# Altium footprint library TI Logic Gate.PcbLib: 60 footprints (part 2 of 4)
Each footprint in its own frame and in the unit in brackets; x right, y up, seen from the top. Pads: shape width x height; smd on the part's side, far side on the other; paste and mask are expansions set on the pad; w line width, h text height; cw(c..) or ccw(c..) is an arc to the next point about the centre after c.
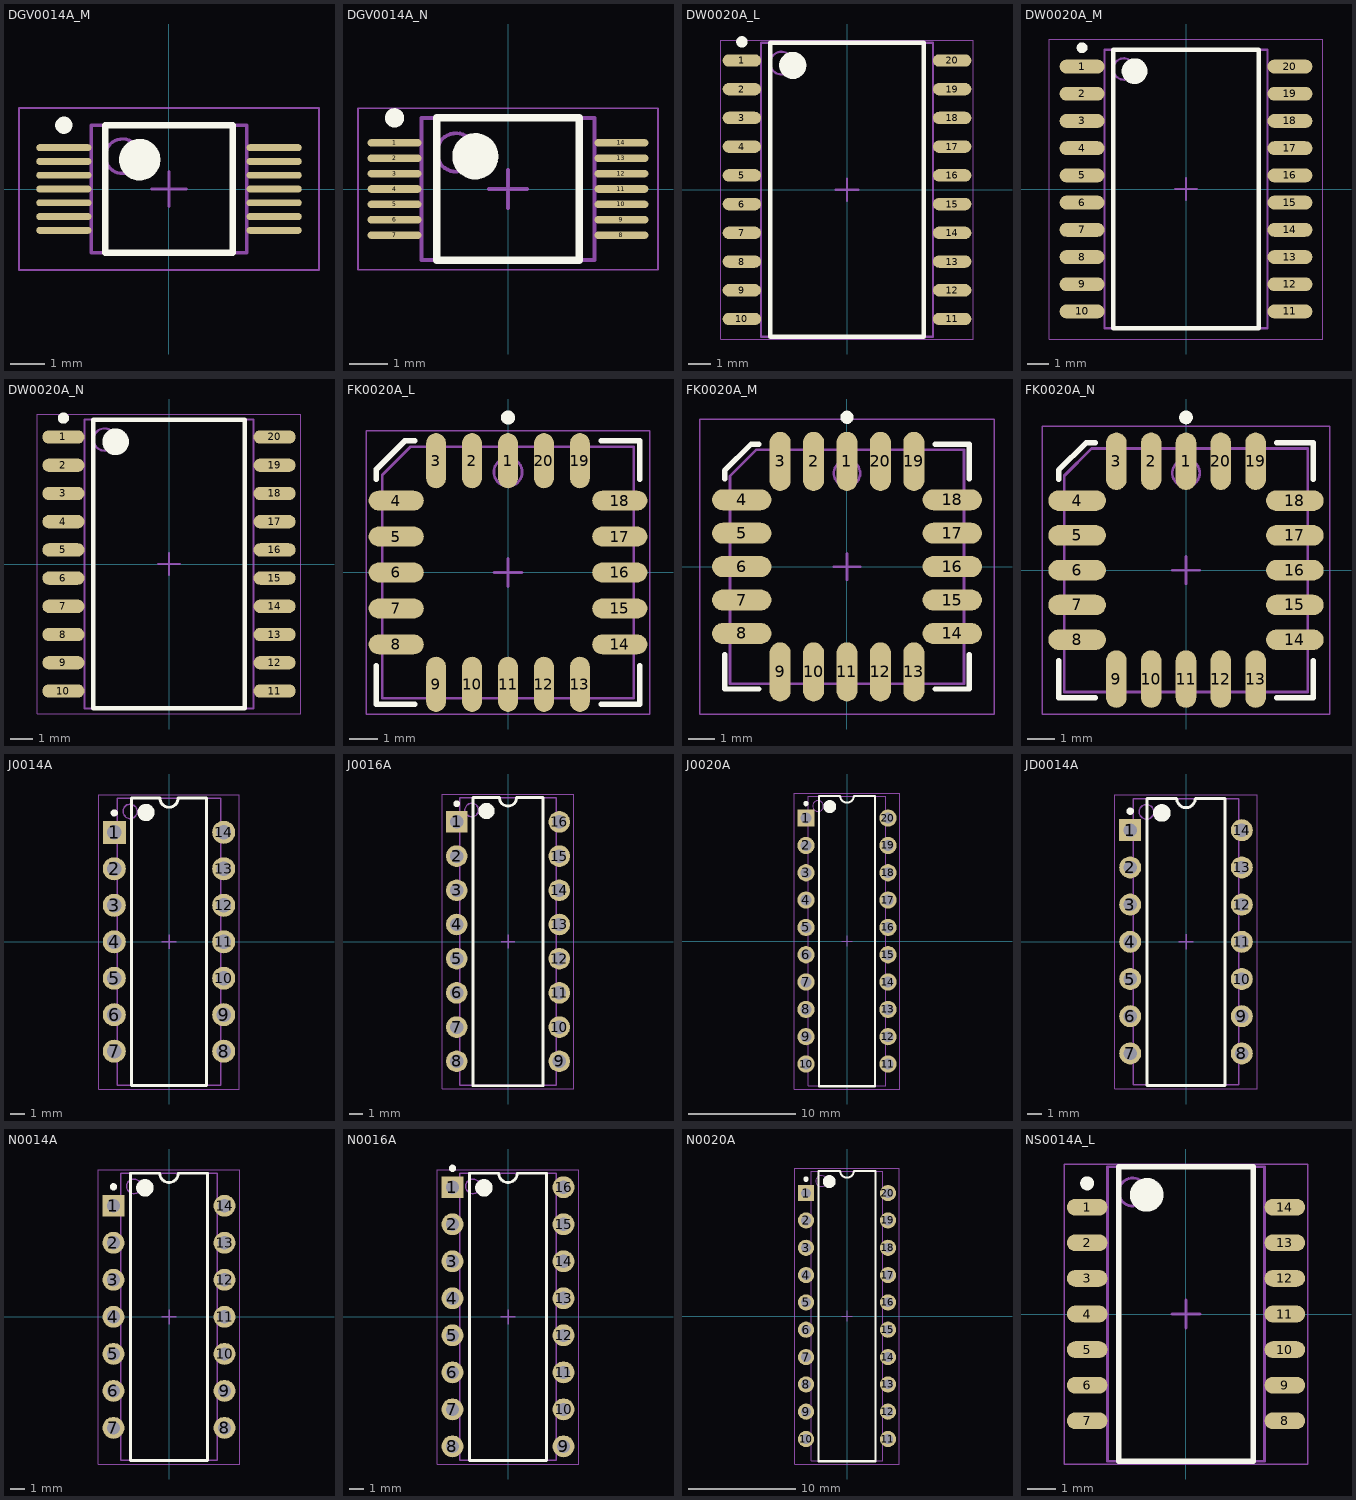
[diagram p1: the footprints below, top view; thin cyan lines are the x and y axes]

## DGV0014A_M [mm] "SOP, 14-Leads, Body 4.5x3.7mm, Pitch 0.4mm, IPC Low Density"
height 1.2
pads (14):
  oval 1.6x0.2 smd: 1(-3.05,1.2) 2(-3.05,0.8) 3(-3.05,0.4) 4(-3.05,0) 5(-3.05,-0.4) 6(-3.05,-0.8) 7(-3.05,-1.2) 8(3.05,-1.2) 9(3.05,-0.8) 10(3.05,-0.4) 11(3.05,0) 12(3.05,0.4) 13(3.05,0.8) 14(3.05,1.2)
Top Overlay:
  circle w0.6: c-0.85,0.85 r0.3
  circle w0.25: c-3.05,1.85 r0.125
  lines w0.2: -1.85,-1.85 1.85,-1.85 1.85,1.85 -1.85,1.85 -1.85,-1.85
Mechanical 13:
  circle w0.1: c-1.35,0.95 r0.5
  lines w0.1: -2.25,-1.85 2.25,-1.85 2.25,1.85 -2.25,1.85 -2.25,-1.85
Mechanical 15:
  lines w0.05: -4.35,-2.35 4.35,-2.35 4.35,2.35 -4.35,2.35 -4.35,-2.35
  lines w0.1: -0.5,0 0.5,0 ; 0,-0.5 0,0.5
3D body "DGV0014A.stp": height 1.2, standoff 0, extent -3.205,-1.8 3.206,1.8

## DGV0014A_N [mm] "SOP, 14-Leads, Body 4.5x3.7mm, Pitch 0.4mm, IPC Medium Density"
height 1.2
pads (14):
  oval 1.4x0.2 smd: 1(-2.95,1.2) 2(-2.95,0.8) 3(-2.95,0.4) 4(-2.95,0) 5(-2.95,-0.4) 6(-2.95,-0.8) 7(-2.95,-1.2) 8(2.95,-1.2) 9(2.95,-0.8) 10(2.95,-0.4) 11(2.95,0) 12(2.95,0.4) 13(2.95,0.8) 14(2.95,1.2)
Top Overlay:
  circle w0.25: c-2.95,1.85 r0.125
  circle w0.6: c-0.85,0.85 r0.3
  lines w0.2: -1.85,-1.85 -1.85,1.85 1.85,1.85 1.85,-1.85 -1.85,-1.85
Mechanical 13:
  circle w0.1: c-1.35,0.95 r0.5
  lines w0.1: -2.25,-1.85 -2.25,1.85 2.25,1.85 2.25,-1.85 -2.25,-1.85
Mechanical 15:
  lines w0.05: -3.9,-2.1 -3.9,2.1 3.9,2.1 3.9,-2.1 -3.9,-2.1
  lines w0.1: -0.5,0 0.5,0 ; 0,-0.5 0,0.5
3D body "DGV0014A.stp": height 1.2, standoff 0, extent -3.205,-1.8 3.206,1.8

## DW0020A_L [mm] "SOIC, 20-Leads, Body 13x7.6mm, Pitch 1.27mm, IPC High Density"
height 2.65
pads (20):
  oval 1.7x0.55 smd: 1(-4.65,5.715) 2(-4.65,4.445) 3(-4.65,3.175) 4(-4.65,1.905) 5(-4.65,0.635) 6(-4.65,-0.635) 7(-4.65,-1.905) 8(-4.65,-3.175) 9(-4.65,-4.445) 10(-4.65,-5.715) 11(4.65,-5.715) 12(4.65,-4.445) 13(4.65,-3.175) 14(4.65,-1.905) 15(4.65,-0.635) 16(4.65,0.635) 17(4.65,1.905) 18(4.65,3.175) 19(4.65,4.445) 20(4.65,5.715)
Top Overlay:
  circle w0.6: c-2.4,5.5 r0.3
  circle w0.25: c-4.65,6.54 r0.125
  lines w0.2: -3.4,-6.5 3.4,-6.5 3.4,6.5 -3.4,6.5 -3.4,-6.5
Mechanical 13:
  circle w0.1: c-2.9,5.6 r0.5
  lines w0.1: -3.8,-6.5 3.8,-6.5 3.8,6.5 -3.8,6.5 -3.8,-6.5
Mechanical 15:
  lines w0.05: -5.575,-6.6 5.575,-6.6 5.575,6.6 -5.575,6.6 -5.575,-6.6
  lines w0.1: -0.5,0 0.5,0 ; 0,-0.5 0,0.5
3D body "DW0028A.stp": height 2.65, standoff -0.02, extent -5.162,-6.401 5.163,6.401

## DW0020A_M [mm] "SOIC, 20-Leads, Body 13x7.6mm, Pitch 1.27mm, IPC Low Density"
height 2.65
pads (20):
  oval 2.1x0.65 smd: 1(-4.85,5.715) 2(-4.85,4.445) 3(-4.85,3.175) 4(-4.85,1.905) 5(-4.85,0.635) 6(-4.85,-0.635) 7(-4.85,-1.905) 8(-4.85,-3.175) 9(-4.85,-4.445) 10(-4.85,-5.715) 11(4.85,-5.715) 12(4.85,-4.445) 13(4.85,-3.175) 14(4.85,-1.905) 15(4.85,-0.635) 16(4.85,0.635) 17(4.85,1.905) 18(4.85,3.175) 19(4.85,4.445) 20(4.85,5.715)
Top Overlay:
  circle w0.6: c-2.4,5.5 r0.3
  circle w0.25: c-4.85,6.59 r0.125
  lines w0.2: -3.4,-6.5 3.4,-6.5 3.4,6.5 -3.4,6.5 -3.4,-6.5
Mechanical 13:
  circle w0.1: c-2.9,5.6 r0.5
  lines w0.1: -3.8,-6.5 3.8,-6.5 3.8,6.5 -3.8,6.5 -3.8,-6.5
Mechanical 15:
  lines w0.05: -6.375,-7 6.375,-7 6.375,7 -6.375,7 -6.375,-7
  lines w0.1: -0.5,0 0.5,0 ; 0,-0.5 0,0.5
3D body "DW0028A.stp": height 2.65, standoff -0.02, extent -5.162,-6.401 5.163,6.401

## DW0020A_N [mm] "SOIC, 20-Leads, Body 13x7.6mm, Pitch 1.27mm, IPC Medium Density"
height 2.65
pads (20):
  oval 1.9x0.6 smd: 1(-4.75,5.715) 2(-4.75,4.445) 3(-4.75,3.175) 4(-4.75,1.905) 5(-4.75,0.635) 6(-4.75,-0.635) 7(-4.75,-1.905) 8(-4.75,-3.175) 9(-4.75,-4.445) 10(-4.75,-5.715) 11(4.75,-5.715) 12(4.75,-4.445) 13(4.75,-3.175) 14(4.75,-1.905) 15(4.75,-0.635) 16(4.75,0.635) 17(4.75,1.905) 18(4.75,3.175) 19(4.75,4.445) 20(4.75,5.715)
Top Overlay:
  circle w0.6: c-2.4,5.5 r0.3
  circle w0.25: c-4.75,6.565 r0.125
  lines w0.2: -3.4,-6.5 3.4,-6.5 3.4,6.5 -3.4,6.5 -3.4,-6.5
Mechanical 13:
  circle w0.1: c-2.9,5.6 r0.5
  lines w0.1: -3.8,-6.5 3.8,-6.5 3.8,6.5 -3.8,6.5 -3.8,-6.5
Mechanical 15:
  lines w0.05: -5.925,-6.75 5.925,-6.75 5.925,6.75 -5.925,6.75 -5.925,-6.75
  lines w0.1: -0.5,0 0.5,0 ; 0,-0.5 0,0.5
3D body "DW0028A.stp": height 2.65, standoff -0.02, extent -5.162,-6.401 5.163,6.401

## FK0020A_L [mm] "LCC, 20-Leads, Body 8.9x8.9mm, Pitch 1.27mm, IPC High Density"
height 2.03
pads (20):
  oval 0.7x1.95 smd: 1(0,3.95) 2(-1.27,3.95) 3(-2.54,3.95) 9(-2.54,-3.95) 10(-1.27,-3.95) 11(0,-3.95) 12(1.27,-3.95) 13(2.54,-3.95) 19(2.54,3.95) 20(1.27,3.95)
  oval 1.95x0.7 smd: 4(-3.95,2.54) 5(-3.95,1.27) 6(-3.95,0) 7(-3.95,-1.27) 8(-3.95,-2.54) 14(3.95,-2.54) 15(3.95,-1.27) 16(3.95,0) 17(3.95,1.27) 18(3.95,2.54)
Top Overlay:
  circle w0.25: c0,5.475 r0.125
  lines w0.2: -4.65,-3.29 -4.65,-4.65 -3.29,-4.65 ; -4.65,3.29 -4.65,3.65 -3.65,4.65 -3.29,4.65 ; 3.29,-4.65 4.65,-4.65 4.65,-3.29 ; 3.29,4.65 4.65,4.65 4.65,3.29
Mechanical 13:
  circle w0.1: c0,3.545 r0.5
  lines w0.1: -4.445,-4.445 -4.445,3.445 -3.445,4.445 4.445,4.445 4.445,-4.445 -4.445,-4.445
Mechanical 15:
  lines w0.05: -5,-5 -5,5 5,5 5,-5 -5,-5
  lines w0.1: -0.5,0 0.5,0 ; 0,-0.5 0,0.5
3D body: height 2.03, standoff 0, extent -4.445,-4.445 4.445,4.445

## FK0020A_M [mm] "LCC, 20-Leads, Body 8.9x8.9mm, Pitch 1.27mm, IPC Low Density"
height 2.03
pads (20):
  oval 0.8x2.25 smd: 1(0,4) 2(-1.27,4) 3(-2.54,4) 9(-2.54,-4) 10(-1.27,-4) 11(0,-4) 12(1.27,-4) 13(2.54,-4) 19(2.54,4) 20(1.27,4)
  oval 2.25x0.8 smd: 4(-4,2.54) 5(-4,1.27) 6(-4,0) 7(-4,-1.27) 8(-4,-2.54) 14(4,-2.54) 15(4,-1.27) 16(4,0) 17(4,1.27) 18(4,2.54)
Top Overlay:
  circle w0.25: c0,5.675 r0.125
  lines w0.2: -4.65,-3.34 -4.65,-4.65 -3.34,-4.65 ; -4.65,3.34 -4.65,3.65 -3.65,4.65 -3.34,4.65 ; 3.34,-4.65 4.65,-4.65 4.65,-3.34 ; 3.34,4.65 4.65,4.65 4.65,3.34
Mechanical 13:
  circle w0.1: c0,3.545 r0.5
  lines w0.1: -4.445,-4.445 -4.445,3.445 -3.445,4.445 4.445,4.445 4.445,-4.445 -4.445,-4.445
Mechanical 15:
  lines w0.05: -5.6,-5.6 -5.6,5.6 5.6,5.6 5.6,-5.6 -5.6,-5.6
  lines w0.1: -0.5,0 0.5,0 ; 0,-0.5 0,0.5
3D body: height 2.03, standoff 0, extent -4.445,-4.445 4.445,4.445

## FK0020A_N [mm] "LCC, 20-Leads, Body 8.9x8.9mm, Pitch 1.27mm, IPC Medium Density"
height 2.03
pads (20):
  oval 0.75x2.1 smd: 1(0,3.975) 2(-1.27,3.975) 3(-2.54,3.975) 9(-2.54,-3.975) 10(-1.27,-3.975) 11(0,-3.975) 12(1.27,-3.975) 13(2.54,-3.975) 19(2.54,3.975) 20(1.27,3.975)
  oval 2.1x0.75 smd: 4(-3.975,2.54) 5(-3.975,1.27) 6(-3.975,0) 7(-3.975,-1.27) 8(-3.975,-2.54) 14(3.975,-2.54) 15(3.975,-1.27) 16(3.975,0) 17(3.975,1.27) 18(3.975,2.54)
Top Overlay:
  circle w0.25: c0,5.575 r0.125
  lines w0.2: -4.65,-3.315 -4.65,-4.65 -3.315,-4.65 ; -4.65,3.315 -4.65,3.65 -3.65,4.65 -3.315,4.65 ; 3.315,-4.65 4.65,-4.65 4.65,-3.315 ; 3.315,4.65 4.65,4.65 4.65,3.315
Mechanical 13:
  circle w0.1: c0,3.545 r0.5
  lines w0.1: -4.445,-4.445 -4.445,3.445 -3.445,4.445 4.445,4.445 4.445,-4.445 -4.445,-4.445
Mechanical 15:
  lines w0.05: -5.25,-5.25 -5.25,5.25 5.25,5.25 5.25,-5.25 -5.25,-5.25
  lines w0.1: -0.5,0 0.5,0 ; 0,-0.5 0,0.5
3D body: height 2.03, standoff 0, extent -4.445,-4.445 4.445,4.445

## J0014A [mm] "DIP, 14-Leads, Body 19.95x7.2mm, Pitch 2.54mm"
height 5.08
pads (14):
  rect 1.6x1.6 hole 1: 1(-3.81,7.62)
  round 1.6 hole 1: 2(-3.81,5.08) 3(-3.81,2.54) 4(-3.81,0) 5(-3.81,-2.54) 6(-3.81,-5.08) 7(-3.81,-7.62) 8(3.81,-7.62) 9(3.81,-5.08) 10(3.81,-2.54) 11(3.81,0) 12(3.81,2.54) 13(3.81,5.08) 14(3.81,7.62)
Top Overlay:
  circle w0.25: c-3.81,8.97 r0.125
  circle w0.6: c-1.6,9 r0.3
  lines w0.2: -2.6,-10 -2.6,10 -0.635,10 ccw(c0,10) 0.635,10 2.6,10 2.6,-10 -2.6,-10
Mechanical 13:
  circle w0.1: c-2.7,9.075 r0.5
  lines w0.1: -3.6,-9.975 -3.6,9.975 3.6,9.975 3.6,-9.975 -3.6,-9.975
Mechanical 15:
  lines w0.05: -4.9,-10.25 -4.9,10.25 4.9,10.25 4.9,-10.25 -4.9,-10.25
  lines w0.1: -0.5,0 0.5,0 ; 0,-0.5 0,0.5
3D body: height 2.58, standoff 0, extent -3.96,7.07 -3.66,8.17
3D body: height 2.88, standoff 2.58, extent -3.96,7.07 -3.6,8.17
3D body: height 0, standoff -1.6, extent -3.96,7.22 -3.66,8.02
3D body: height 2.58, standoff 0, extent -3.96,4.53 -3.66,5.63
3D body: height 2.88, standoff 2.58, extent -3.96,4.53 -3.6,5.63
3D body: height 0, standoff -1.6, extent -3.96,4.68 -3.66,5.48
3D body: height 2.58, standoff 0, extent -3.96,1.99 -3.66,3.09
3D body: height 2.88, standoff 2.58, extent -3.96,1.99 -3.6,3.09
3D body: height 0, standoff -1.6, extent -3.96,2.14 -3.66,2.94
3D body: height 2.58, standoff 0, extent -3.96,-0.55 -3.66,0.55
3D body: height 2.88, standoff 2.58, extent -3.96,-0.55 -3.6,0.55
3D body: height 0, standoff -1.6, extent -3.96,-0.4 -3.66,0.4
3D body: height 2.58, standoff 0, extent -3.96,-3.09 -3.66,-1.99
3D body: height 2.88, standoff 2.58, extent -3.96,-3.09 -3.6,-1.99
3D body: height 0, standoff -1.6, extent -3.96,-2.94 -3.66,-2.14
3D body: height 2.58, standoff 0, extent -3.96,-5.63 -3.66,-4.53
3D body: height 2.88, standoff 2.58, extent -3.96,-5.63 -3.6,-4.53
3D body: height 0, standoff -1.6, extent -3.96,-5.48 -3.66,-4.68
3D body: height 2.58, standoff 0, extent -3.96,-8.17 -3.66,-7.07
3D body: height 2.88, standoff 2.58, extent -3.96,-8.17 -3.6,-7.07
3D body: height 0, standoff -1.6, extent -3.96,-8.02 -3.66,-7.22
3D body: height 2.58, standoff 0, extent 3.66,-8.17 3.96,-7.07
3D body: height 2.88, standoff 2.58, extent 3.6,-8.17 3.96,-7.07
3D body: height 0, standoff -1.6, extent 3.66,-8.02 3.96,-7.22
3D body: height 2.58, standoff 0, extent 3.66,-5.63 3.96,-4.53
3D body: height 2.88, standoff 2.58, extent 3.6,-5.63 3.96,-4.53
3D body: height 0, standoff -1.6, extent 3.66,-5.48 3.96,-4.68
3D body: height 2.58, standoff 0, extent 3.66,-3.09 3.96,-1.99
3D body: height 2.88, standoff 2.58, extent 3.6,-3.09 3.96,-1.99
3D body: height 0, standoff -1.6, extent 3.66,-2.94 3.96,-2.14
3D body: height 2.58, standoff 0, extent 3.66,-0.55 3.96,0.55
3D body: height 2.88, standoff 2.58, extent 3.6,-0.55 3.96,0.55
3D body: height 0, standoff -1.6, extent 3.66,-0.4 3.96,0.4
3D body: height 2.58, standoff 0, extent 3.66,1.99 3.96,3.09
3D body: height 2.88, standoff 2.58, extent 3.6,1.99 3.96,3.09
3D body: height 0, standoff -1.6, extent 3.66,2.14 3.96,2.94
3D body: height 2.58, standoff 0, extent 3.66,4.53 3.96,5.63
3D body: height 2.88, standoff 2.58, extent 3.6,4.53 3.96,5.63
3D body: height 0, standoff -1.6, extent 3.66,4.68 3.96,5.48
3D body: height 2.58, standoff 0, extent 3.66,7.07 3.96,8.17
3D body: height 2.88, standoff 2.58, extent 3.6,7.07 3.96,8.17
3D body: height 0, standoff -1.6, extent 3.66,7.22 3.96,8.02
3D body: height 5.08, standoff 0.38, extent -3.6,-9.975 3.6,9.975

## J0016A [mm] "DIP, 16-Leads, Body 21.35x7.2mm, Pitch 2.54mm"
height 5.08
pads (16):
  rect 1.6x1.6 hole 1: 1(-3.81,8.89)
  round 1.6 hole 1: 2(-3.81,6.35) 3(-3.81,3.81) 4(-3.81,1.27) 5(-3.81,-1.27) 6(-3.81,-3.81) 7(-3.81,-6.35) 8(-3.81,-8.89) 9(3.81,-8.89) 10(3.81,-6.35) 11(3.81,-3.81) 12(3.81,-1.27) 13(3.81,1.27) 14(3.81,3.81) 15(3.81,6.35) 16(3.81,8.89)
Top Overlay:
  circle w0.6: c-1.6,9.7 r0.3
  circle w0.25: c-3.81,10.24 r0.125
  lines w0.2: -2.6,-10.7 2.6,-10.7 2.6,10.7 0.635,10.7 cw(c0,10.7) -0.635,10.7 -2.6,10.7 -2.6,-10.7
Mechanical 13:
  circle w0.1: c-2.7,9.775 r0.5
  lines w0.1: -3.6,-10.675 3.6,-10.675 3.6,10.675 -3.6,10.675 -3.6,-10.675
Mechanical 15:
  lines w0.05: -4.9,-10.95 4.9,-10.95 4.9,10.95 -4.9,10.95 -4.9,-10.95
  lines w0.1: -0.5,0 0.5,0 ; 0,-0.5 0,0.5
3D body: height 5.08, standoff 0.38, extent -3.6,-10.675 3.6,10.675
3D body: height 0, standoff -1.6, extent 3.66,8.49 3.96,9.29
3D body: height 2.88, standoff 2.58, extent 3.6,8.34 3.96,9.44
3D body: height 2.58, standoff 0, extent 3.66,8.34 3.96,9.44
3D body: height 0, standoff -1.6, extent 3.66,5.95 3.96,6.75
3D body: height 2.88, standoff 2.58, extent 3.6,5.8 3.96,6.9
3D body: height 2.58, standoff 0, extent 3.66,5.8 3.96,6.9
3D body: height 0, standoff -1.6, extent 3.66,3.41 3.96,4.21
3D body: height 2.88, standoff 2.58, extent 3.6,3.26 3.96,4.36
3D body: height 2.58, standoff 0, extent 3.66,3.26 3.96,4.36
3D body: height 0, standoff -1.6, extent 3.66,0.87 3.96,1.67
3D body: height 2.88, standoff 2.58, extent 3.6,0.72 3.96,1.82
3D body: height 2.58, standoff 0, extent 3.66,0.72 3.96,1.82
3D body: height 0, standoff -1.6, extent 3.66,-1.67 3.96,-0.87
3D body: height 2.88, standoff 2.58, extent 3.6,-1.82 3.96,-0.72
3D body: height 2.58, standoff 0, extent 3.66,-1.82 3.96,-0.72
3D body: height 0, standoff -1.6, extent 3.66,-4.21 3.96,-3.41
3D body: height 2.88, standoff 2.58, extent 3.6,-4.36 3.96,-3.26
3D body: height 2.58, standoff 0, extent 3.66,-4.36 3.96,-3.26
3D body: height 0, standoff -1.6, extent 3.66,-6.75 3.96,-5.95
3D body: height 2.88, standoff 2.58, extent 3.6,-6.9 3.96,-5.8
3D body: height 2.58, standoff 0, extent 3.66,-6.9 3.96,-5.8
3D body: height 0, standoff -1.6, extent 3.66,-9.29 3.96,-8.49
3D body: height 2.88, standoff 2.58, extent 3.6,-9.44 3.96,-8.34
3D body: height 2.58, standoff 0, extent 3.66,-9.44 3.96,-8.34
3D body: height 0, standoff -1.6, extent -3.96,-9.29 -3.66,-8.49
3D body: height 2.88, standoff 2.58, extent -3.96,-9.44 -3.6,-8.34
3D body: height 2.58, standoff 0, extent -3.96,-9.44 -3.66,-8.34
3D body: height 0, standoff -1.6, extent -3.96,-6.75 -3.66,-5.95
3D body: height 2.88, standoff 2.58, extent -3.96,-6.9 -3.6,-5.8
3D body: height 2.58, standoff 0, extent -3.96,-6.9 -3.66,-5.8
3D body: height 0, standoff -1.6, extent -3.96,-4.21 -3.66,-3.41
3D body: height 2.88, standoff 2.58, extent -3.96,-4.36 -3.6,-3.26
3D body: height 2.58, standoff 0, extent -3.96,-4.36 -3.66,-3.26
3D body: height 0, standoff -1.6, extent -3.96,-1.67 -3.66,-0.87
3D body: height 2.88, standoff 2.58, extent -3.96,-1.82 -3.6,-0.72
3D body: height 2.58, standoff 0, extent -3.96,-1.82 -3.66,-0.72
3D body: height 0, standoff -1.6, extent -3.96,0.87 -3.66,1.67
3D body: height 2.88, standoff 2.58, extent -3.96,0.72 -3.6,1.82
3D body: height 2.58, standoff 0, extent -3.96,0.72 -3.66,1.82
3D body: height 0, standoff -1.6, extent -3.96,3.41 -3.66,4.21
3D body: height 2.88, standoff 2.58, extent -3.96,3.26 -3.6,4.36
3D body: height 2.58, standoff 0, extent -3.96,3.26 -3.66,4.36
3D body: height 0, standoff -1.6, extent -3.96,5.95 -3.66,6.75
3D body: height 2.88, standoff 2.58, extent -3.96,5.8 -3.6,6.9
3D body: height 2.58, standoff 0, extent -3.96,5.8 -3.66,6.9
3D body: height 0, standoff -1.6, extent -3.96,8.49 -3.66,9.29
3D body: height 2.88, standoff 2.58, extent -3.96,8.34 -3.6,9.44
3D body: height 2.58, standoff 0, extent -3.96,8.34 -3.66,9.44

## J0020A [mm] "DIP, 20-Leads, Body 26.9x7.2mm, Pitch 2.54mm"
height 5.08
pads (20):
  rect 1.6x1.6 hole 1: 1(-3.81,11.43)
  round 1.6 hole 1: 2(-3.81,8.89) 3(-3.81,6.35) 4(-3.81,3.81) 5(-3.81,1.27) 6(-3.81,-1.27) 7(-3.81,-3.81) 8(-3.81,-6.35) 9(-3.81,-8.89) 10(-3.81,-11.43) 11(3.81,-11.43) 12(3.81,-8.89) 13(3.81,-6.35) 14(3.81,-3.81) 15(3.81,-1.27) 16(3.81,1.27) 17(3.81,3.81) 18(3.81,6.35) 19(3.81,8.89) 20(3.81,11.43)
Top Overlay:
  circle w0.6: c-1.6,12.5 r0.3
  circle w0.25: c-3.81,12.78 r0.125
  lines w0.2: -2.6,-13.5 2.6,-13.5 2.6,13.5 0.635,13.5 cw(c0,13.5) -0.635,13.5 -2.6,13.5 -2.6,-13.5
Mechanical 13:
  circle w0.1: c-2.7,12.55 r0.5
  lines w0.1: -3.6,-13.45 3.6,-13.45 3.6,13.45 -3.6,13.45 -3.6,-13.45
Mechanical 15:
  lines w0.05: -4.9,-13.75 4.9,-13.75 4.9,13.75 -4.9,13.75 -4.9,-13.75
  lines w0.1: -0.5,0 0.5,0 ; 0,-0.5 0,0.5
3D body: height 5.08, standoff 0.38, extent -3.6,-13.45 3.6,13.45
3D body: height 0, standoff -1.6, extent 3.66,11.03 3.96,11.83
3D body: height 2.88, standoff 2.58, extent 3.6,10.88 3.96,11.98
3D body: height 2.58, standoff 0, extent 3.66,10.88 3.96,11.98
3D body: height 0, standoff -1.6, extent 3.66,8.49 3.96,9.29
3D body: height 2.88, standoff 2.58, extent 3.6,8.34 3.96,9.44
3D body: height 2.58, standoff 0, extent 3.66,8.34 3.96,9.44
3D body: height 0, standoff -1.6, extent 3.66,5.95 3.96,6.75
3D body: height 2.88, standoff 2.58, extent 3.6,5.8 3.96,6.9
3D body: height 2.58, standoff 0, extent 3.66,5.8 3.96,6.9
3D body: height 0, standoff -1.6, extent 3.66,3.41 3.96,4.21
3D body: height 2.88, standoff 2.58, extent 3.6,3.26 3.96,4.36
3D body: height 2.58, standoff 0, extent 3.66,3.26 3.96,4.36
3D body: height 0, standoff -1.6, extent 3.66,0.87 3.96,1.67
3D body: height 2.88, standoff 2.58, extent 3.6,0.72 3.96,1.82
3D body: height 2.58, standoff 0, extent 3.66,0.72 3.96,1.82
3D body: height 0, standoff -1.6, extent 3.66,-1.67 3.96,-0.87
3D body: height 2.88, standoff 2.58, extent 3.6,-1.82 3.96,-0.72
3D body: height 2.58, standoff 0, extent 3.66,-1.82 3.96,-0.72
3D body: height 0, standoff -1.6, extent 3.66,-4.21 3.96,-3.41
3D body: height 2.88, standoff 2.58, extent 3.6,-4.36 3.96,-3.26
3D body: height 2.58, standoff 0, extent 3.66,-4.36 3.96,-3.26
3D body: height 0, standoff -1.6, extent 3.66,-6.75 3.96,-5.95
3D body: height 2.88, standoff 2.58, extent 3.6,-6.9 3.96,-5.8
3D body: height 2.58, standoff 0, extent 3.66,-6.9 3.96,-5.8
3D body: height 0, standoff -1.6, extent 3.66,-9.29 3.96,-8.49
3D body: height 2.88, standoff 2.58, extent 3.6,-9.44 3.96,-8.34
3D body: height 2.58, standoff 0, extent 3.66,-9.44 3.96,-8.34
3D body: height 0, standoff -1.6, extent 3.66,-11.83 3.96,-11.03
3D body: height 2.88, standoff 2.58, extent 3.6,-11.98 3.96,-10.88
3D body: height 2.58, standoff 0, extent 3.66,-11.98 3.96,-10.88
3D body: height 0, standoff -1.6, extent -3.96,-11.83 -3.66,-11.03
3D body: height 2.88, standoff 2.58, extent -3.96,-11.98 -3.6,-10.88
3D body: height 2.58, standoff 0, extent -3.96,-11.98 -3.66,-10.88
3D body: height 0, standoff -1.6, extent -3.96,-9.29 -3.66,-8.49
3D body: height 2.88, standoff 2.58, extent -3.96,-9.44 -3.6,-8.34
3D body: height 2.58, standoff 0, extent -3.96,-9.44 -3.66,-8.34
3D body: height 0, standoff -1.6, extent -3.96,-6.75 -3.66,-5.95
3D body: height 2.88, standoff 2.58, extent -3.96,-6.9 -3.6,-5.8
3D body: height 2.58, standoff 0, extent -3.96,-6.9 -3.66,-5.8
3D body: height 0, standoff -1.6, extent -3.96,-4.21 -3.66,-3.41
3D body: height 2.88, standoff 2.58, extent -3.96,-4.36 -3.6,-3.26
3D body: height 2.58, standoff 0, extent -3.96,-4.36 -3.66,-3.26
3D body: height 0, standoff -1.6, extent -3.96,-1.67 -3.66,-0.87
3D body: height 2.88, standoff 2.58, extent -3.96,-1.82 -3.6,-0.72
3D body: height 2.58, standoff 0, extent -3.96,-1.82 -3.66,-0.72
3D body: height 0, standoff -1.6, extent -3.96,0.87 -3.66,1.67
3D body: height 2.88, standoff 2.58, extent -3.96,0.72 -3.6,1.82
3D body: height 2.58, standoff 0, extent -3.96,0.72 -3.66,1.82
3D body: height 0, standoff -1.6, extent -3.96,3.41 -3.66,4.21
3D body: height 2.88, standoff 2.58, extent -3.96,3.26 -3.6,4.36
3D body: height 2.58, standoff 0, extent -3.96,3.26 -3.66,4.36
3D body: height 0, standoff -1.6, extent -3.96,5.95 -3.66,6.75
3D body: height 2.88, standoff 2.58, extent -3.96,5.8 -3.6,6.9
3D body: height 2.58, standoff 0, extent -3.96,5.8 -3.66,6.9
3D body: height 0, standoff -1.6, extent -3.96,8.49 -3.66,9.29
3D body: height 2.88, standoff 2.58, extent -3.96,8.34 -3.6,9.44
3D body: height 2.58, standoff 0, extent -3.96,8.34 -3.66,9.44
3D body: height 0, standoff -1.6, extent -3.96,11.03 -3.66,11.83
3D body: height 2.88, standoff 2.58, extent -3.96,10.88 -3.6,11.98
3D body: height 2.58, standoff 0, extent -3.96,10.88 -3.66,11.98

## JD0014A [mm] "DIP, 14-Leads, Body 19.55x7.2mm, Pitch 2.54mm"
height 4.45
pads (14):
  rect 1.5x1.5 hole 0.9: 1(-3.81,7.62)
  round 1.5 hole 0.9: 2(-3.81,5.08) 3(-3.81,2.54) 4(-3.81,0) 5(-3.81,-2.54) 6(-3.81,-5.08) 7(-3.81,-7.62) 8(3.81,-7.62) 9(3.81,-5.08) 10(3.81,-2.54) 11(3.81,0) 12(3.81,2.54) 13(3.81,5.08) 14(3.81,7.62)
Top Overlay:
  circle w0.6: c-1.65,8.8 r0.3
  circle w0.25: c-3.81,8.92 r0.125
  lines w0.2: -2.65,-9.8 2.65,-9.8 2.65,9.8 0.635,9.8 cw(c0,9.8) -0.635,9.8 -2.65,9.8 -2.65,-9.8
Mechanical 13:
  circle w0.1: c-2.7,8.875 r0.5
  lines w0.1: -3.6,-9.775 3.6,-9.775 3.6,9.775 -3.6,9.775 -3.6,-9.775
Mechanical 15:
  lines w0.05: -4.85,-10.05 4.85,-10.05 4.85,10.05 -4.85,10.05 -4.85,-10.05
  lines w0.1: -0.5,0 0.5,0 ; 0,-0.5 0,0.5
3D body: height 4.45, standoff 0.64, extent -3.6,-9.775 3.6,9.775
3D body: height 0, standoff -1.6, extent 3.675,7.26 3.945,7.98
3D body: height 2.68, standoff 2.41, extent 3.6,7.12 3.945,8.12
3D body: height 2.41, standoff 0, extent 3.675,7.12 3.945,8.12
3D body: height 0, standoff -1.6, extent 3.675,4.72 3.945,5.44
3D body: height 2.68, standoff 2.41, extent 3.6,4.58 3.945,5.58
3D body: height 2.41, standoff 0, extent 3.675,4.58 3.945,5.58
3D body: height 0, standoff -1.6, extent 3.675,2.18 3.945,2.9
3D body: height 2.68, standoff 2.41, extent 3.6,2.04 3.945,3.04
3D body: height 2.41, standoff 0, extent 3.675,2.04 3.945,3.04
3D body: height 0, standoff -1.6, extent 3.675,-0.36 3.945,0.36
3D body: height 2.68, standoff 2.41, extent 3.6,-0.5 3.945,0.5
3D body: height 2.41, standoff 0, extent 3.675,-0.5 3.945,0.5
3D body: height 0, standoff -1.6, extent 3.675,-2.9 3.945,-2.18
3D body: height 2.68, standoff 2.41, extent 3.6,-3.04 3.945,-2.04
3D body: height 2.41, standoff 0, extent 3.675,-3.04 3.945,-2.04
3D body: height 0, standoff -1.6, extent 3.675,-5.44 3.945,-4.72
3D body: height 2.68, standoff 2.41, extent 3.6,-5.58 3.945,-4.58
3D body: height 2.41, standoff 0, extent 3.675,-5.58 3.945,-4.58
3D body: height 0, standoff -1.6, extent 3.675,-7.98 3.945,-7.26
3D body: height 2.68, standoff 2.41, extent 3.6,-8.12 3.945,-7.12
3D body: height 2.41, standoff 0, extent 3.675,-8.12 3.945,-7.12
3D body: height 0, standoff -1.6, extent -3.945,-7.98 -3.675,-7.26
3D body: height 2.68, standoff 2.41, extent -3.945,-8.12 -3.6,-7.12
3D body: height 2.41, standoff 0, extent -3.945,-8.12 -3.675,-7.12
3D body: height 0, standoff -1.6, extent -3.945,-5.44 -3.675,-4.72
3D body: height 2.68, standoff 2.41, extent -3.945,-5.58 -3.6,-4.58
3D body: height 2.41, standoff 0, extent -3.945,-5.58 -3.675,-4.58
3D body: height 0, standoff -1.6, extent -3.945,-2.9 -3.675,-2.18
3D body: height 2.68, standoff 2.41, extent -3.945,-3.04 -3.6,-2.04
3D body: height 2.41, standoff 0, extent -3.945,-3.04 -3.675,-2.04
3D body: height 0, standoff -1.6, extent -3.945,-0.36 -3.675,0.36
3D body: height 2.68, standoff 2.41, extent -3.945,-0.5 -3.6,0.5
3D body: height 2.41, standoff 0, extent -3.945,-0.5 -3.675,0.5
3D body: height 0, standoff -1.6, extent -3.945,2.18 -3.675,2.9
3D body: height 2.68, standoff 2.41, extent -3.945,2.04 -3.6,3.04
3D body: height 2.41, standoff 0, extent -3.945,2.04 -3.675,3.04
3D body: height 0, standoff -1.6, extent -3.945,4.72 -3.675,5.44
3D body: height 2.68, standoff 2.41, extent -3.945,4.58 -3.6,5.58
3D body: height 2.41, standoff 0, extent -3.945,4.58 -3.675,5.58
3D body: height 0, standoff -1.6, extent -3.945,7.26 -3.675,7.98
3D body: height 2.68, standoff 2.41, extent -3.945,7.12 -3.6,8.12
3D body: height 2.41, standoff 0, extent -3.945,7.12 -3.675,8.12

## N0014A [mm] "DIP, 14-Leads, Body 19.7x6.6mm, Pitch 2.54mm"
height 5.08
pads (14):
  rect 1.5x1.5 hole 0.9: 1(-3.81,7.62)
  round 1.5 hole 0.9: 2(-3.81,5.08) 3(-3.81,2.54) 4(-3.81,0) 5(-3.81,-2.54) 6(-3.81,-5.08) 7(-3.81,-7.62) 8(3.81,-7.62) 9(3.81,-5.08) 10(3.81,-2.54) 11(3.81,0) 12(3.81,2.54) 13(3.81,5.08) 14(3.81,7.62)
Top Overlay:
  circle w0.25: c-3.81,8.92 r0.125
  circle w0.6: c-1.65,8.85 r0.3
  lines w0.2: -2.65,-9.85 -2.65,9.85 -0.635,9.85 ccw(c0,9.85) 0.635,9.85 2.65,9.85 2.65,-9.85 -2.65,-9.85
Mechanical 13:
  circle w0.1: c-2.4,8.95 r0.5
  lines w0.1: -3.3,-9.85 -3.3,9.85 3.3,9.85 3.3,-9.85 -3.3,-9.85
Mechanical 15:
  lines w0.05: -4.85,-10.1 -4.85,10.1 4.85,10.1 4.85,-10.1 -4.85,-10.1
  lines w0.1: -0.5,0 0.5,0 ; 0,-0.5 0,0.5
3D body: height 2.66, standoff 0, extent -3.945,7.12 -3.675,8.12
3D body: height 2.93, standoff 2.66, extent -3.945,7.12 -3.3,8.12
3D body: height 0, standoff -1.6, extent -3.945,7.26 -3.675,7.98
3D body: height 2.66, standoff 0, extent -3.945,4.58 -3.675,5.58
3D body: height 2.93, standoff 2.66, extent -3.945,4.58 -3.3,5.58
3D body: height 0, standoff -1.6, extent -3.945,4.72 -3.675,5.44
3D body: height 2.66, standoff 0, extent -3.945,2.04 -3.675,3.04
3D body: height 2.93, standoff 2.66, extent -3.945,2.04 -3.3,3.04
3D body: height 0, standoff -1.6, extent -3.945,2.18 -3.675,2.9
3D body: height 2.66, standoff 0, extent -3.945,-0.5 -3.675,0.5
3D body: height 2.93, standoff 2.66, extent -3.945,-0.5 -3.3,0.5
3D body: height 0, standoff -1.6, extent -3.945,-0.36 -3.675,0.36
3D body: height 2.66, standoff 0, extent -3.945,-3.04 -3.675,-2.04
3D body: height 2.93, standoff 2.66, extent -3.945,-3.04 -3.3,-2.04
3D body: height 0, standoff -1.6, extent -3.945,-2.9 -3.675,-2.18
3D body: height 2.66, standoff 0, extent -3.945,-5.58 -3.675,-4.58
3D body: height 2.93, standoff 2.66, extent -3.945,-5.58 -3.3,-4.58
3D body: height 0, standoff -1.6, extent -3.945,-5.44 -3.675,-4.72
3D body: height 2.66, standoff 0, extent -3.945,-8.12 -3.675,-7.12
3D body: height 2.93, standoff 2.66, extent -3.945,-8.12 -3.3,-7.12
3D body: height 0, standoff -1.6, extent -3.945,-7.98 -3.675,-7.26
3D body: height 2.66, standoff 0, extent 3.675,-8.12 3.945,-7.12
3D body: height 2.93, standoff 2.66, extent 3.3,-8.12 3.945,-7.12
3D body: height 0, standoff -1.6, extent 3.675,-7.98 3.945,-7.26
3D body: height 2.66, standoff 0, extent 3.675,-5.58 3.945,-4.58
3D body: height 2.93, standoff 2.66, extent 3.3,-5.58 3.945,-4.58
3D body: height 0, standoff -1.6, extent 3.675,-5.44 3.945,-4.72
3D body: height 2.66, standoff 0, extent 3.675,-3.04 3.945,-2.04
3D body: height 2.93, standoff 2.66, extent 3.3,-3.04 3.945,-2.04
3D body: height 0, standoff -1.6, extent 3.675,-2.9 3.945,-2.18
3D body: height 2.66, standoff 0, extent 3.675,-0.5 3.945,0.5
3D body: height 2.93, standoff 2.66, extent 3.3,-0.5 3.945,0.5
3D body: height 0, standoff -1.6, extent 3.675,-0.36 3.945,0.36
3D body: height 2.66, standoff 0, extent 3.675,2.04 3.945,3.04
3D body: height 2.93, standoff 2.66, extent 3.3,2.04 3.945,3.04
3D body: height 0, standoff -1.6, extent 3.675,2.18 3.945,2.9
3D body: height 2.66, standoff 0, extent 3.675,4.58 3.945,5.58
3D body: height 2.93, standoff 2.66, extent 3.3,4.58 3.945,5.58
3D body: height 0, standoff -1.6, extent 3.675,4.72 3.945,5.44
3D body: height 2.66, standoff 0, extent 3.675,7.12 3.945,8.12
3D body: height 2.93, standoff 2.66, extent 3.3,7.12 3.945,8.12
3D body: height 0, standoff -1.6, extent 3.675,7.26 3.945,7.98
3D body: height 5.08, standoff 0.51, extent -3.3,-9.85 3.3,9.85

## N0016A [mm] "DIP, 16-Leads, Body 19.7x6.6mm, Pitch 2.54mm"
height 5.08
pads (16):
  rect 1.5x1.5 hole 0.9: 1(-3.81,8.89)
  round 1.5 hole 0.9: 2(-3.81,6.35) 3(-3.81,3.81) 4(-3.81,1.27) 5(-3.81,-1.27) 6(-3.81,-3.81) 7(-3.81,-6.35) 8(-3.81,-8.89) 9(3.81,-8.89) 10(3.81,-6.35) 11(3.81,-3.81) 12(3.81,-1.27) 13(3.81,1.27) 14(3.81,3.81) 15(3.81,6.35) 16(3.81,8.89)
Top Overlay:
  circle w0.25: c-3.81,10.19 r0.125
  circle w0.6: c-1.65,8.85 r0.3
  lines w0.2: -2.65,-9.85 -2.65,9.85 -0.635,9.85 ccw(c0,9.85) 0.635,9.85 2.65,9.85 2.65,-9.85 -2.65,-9.85
Mechanical 13:
  circle w0.1: c-2.4,8.95 r0.5
  lines w0.1: -3.3,-9.85 -3.3,9.85 3.3,9.85 3.3,-9.85 -3.3,-9.85
Mechanical 15:
  lines w0.05: -4.85,-10.1 -4.85,10.1 4.85,10.1 4.85,-10.1 -4.85,-10.1
  lines w0.1: -0.5,0 0.5,0 ; 0,-0.5 0,0.5
3D body: height 2.66, standoff 0, extent -3.945,8.39 -3.675,9.39
3D body: height 2.93, standoff 2.66, extent -3.945,8.39 -3.3,9.39
3D body: height 0, standoff -1.6, extent -3.945,8.53 -3.675,9.25
3D body: height 2.66, standoff 0, extent -3.945,5.85 -3.675,6.85
3D body: height 2.93, standoff 2.66, extent -3.945,5.85 -3.3,6.85
3D body: height 0, standoff -1.6, extent -3.945,5.99 -3.675,6.71
3D body: height 2.66, standoff 0, extent -3.945,3.31 -3.675,4.31
3D body: height 2.93, standoff 2.66, extent -3.945,3.31 -3.3,4.31
3D body: height 0, standoff -1.6, extent -3.945,3.45 -3.675,4.17
3D body: height 2.66, standoff 0, extent -3.945,0.77 -3.675,1.77
3D body: height 2.93, standoff 2.66, extent -3.945,0.77 -3.3,1.77
3D body: height 0, standoff -1.6, extent -3.945,0.91 -3.675,1.63
3D body: height 2.66, standoff 0, extent -3.945,-1.77 -3.675,-0.77
3D body: height 2.93, standoff 2.66, extent -3.945,-1.77 -3.3,-0.77
3D body: height 0, standoff -1.6, extent -3.945,-1.63 -3.675,-0.91
3D body: height 2.66, standoff 0, extent -3.945,-4.31 -3.675,-3.31
3D body: height 2.93, standoff 2.66, extent -3.945,-4.31 -3.3,-3.31
3D body: height 0, standoff -1.6, extent -3.945,-4.17 -3.675,-3.45
3D body: height 2.66, standoff 0, extent -3.945,-6.85 -3.675,-5.85
3D body: height 2.93, standoff 2.66, extent -3.945,-6.85 -3.3,-5.85
3D body: height 0, standoff -1.6, extent -3.945,-6.71 -3.675,-5.99
3D body: height 2.66, standoff 0, extent -3.945,-9.39 -3.675,-8.39
3D body: height 2.93, standoff 2.66, extent -3.945,-9.39 -3.3,-8.39
3D body: height 0, standoff -1.6, extent -3.945,-9.25 -3.675,-8.53
3D body: height 2.66, standoff 0, extent 3.675,-9.39 3.945,-8.39
3D body: height 2.93, standoff 2.66, extent 3.3,-9.39 3.945,-8.39
3D body: height 0, standoff -1.6, extent 3.675,-9.25 3.945,-8.53
3D body: height 2.66, standoff 0, extent 3.675,-6.85 3.945,-5.85
3D body: height 2.93, standoff 2.66, extent 3.3,-6.85 3.945,-5.85
3D body: height 0, standoff -1.6, extent 3.675,-6.71 3.945,-5.99
3D body: height 2.66, standoff 0, extent 3.675,-4.31 3.945,-3.31
3D body: height 2.93, standoff 2.66, extent 3.3,-4.31 3.945,-3.31
3D body: height 0, standoff -1.6, extent 3.675,-4.17 3.945,-3.45
3D body: height 2.66, standoff 0, extent 3.675,-1.77 3.945,-0.77
3D body: height 2.93, standoff 2.66, extent 3.3,-1.77 3.945,-0.77
3D body: height 0, standoff -1.6, extent 3.675,-1.63 3.945,-0.91
3D body: height 2.66, standoff 0, extent 3.675,0.77 3.945,1.77
3D body: height 2.93, standoff 2.66, extent 3.3,0.77 3.945,1.77
3D body: height 0, standoff -1.6, extent 3.675,0.91 3.945,1.63
3D body: height 2.66, standoff 0, extent 3.675,3.31 3.945,4.31
3D body: height 2.93, standoff 2.66, extent 3.3,3.31 3.945,4.31
3D body: height 0, standoff -1.6, extent 3.675,3.45 3.945,4.17
3D body: height 2.66, standoff 0, extent 3.675,5.85 3.945,6.85
3D body: height 2.93, standoff 2.66, extent 3.3,5.85 3.945,6.85
3D body: height 0, standoff -1.6, extent 3.675,5.99 3.945,6.71
3D body: height 2.66, standoff 0, extent 3.675,8.39 3.945,9.39
3D body: height 2.93, standoff 2.66, extent 3.3,8.39 3.945,9.39
3D body: height 0, standoff -1.6, extent 3.675,8.53 3.945,9.25
3D body: height 5.08, standoff 0.51, extent -3.3,-9.85 3.3,9.85

## N0020A [mm] "DIP, 20-Leads, Body 26.9x6.6mm, Pitch 2.54mm"
height 5.08
pads (20):
  rect 1.5x1.5 hole 0.9: 1(-3.81,11.43)
  round 1.5 hole 0.9: 2(-3.81,8.89) 3(-3.81,6.35) 4(-3.81,3.81) 5(-3.81,1.27) 6(-3.81,-1.27) 7(-3.81,-3.81) 8(-3.81,-6.35) 9(-3.81,-8.89) 10(-3.81,-11.43) 11(3.81,-11.43) 12(3.81,-8.89) 13(3.81,-6.35) 14(3.81,-3.81) 15(3.81,-1.27) 16(3.81,1.27) 17(3.81,3.81) 18(3.81,6.35) 19(3.81,8.89) 20(3.81,11.43)
Top Overlay:
  circle w0.6: c-1.65,12.5 r0.3
  circle w0.25: c-3.81,12.73 r0.125
  lines w0.2: -2.65,-13.5 2.65,-13.5 2.65,13.5 0.635,13.5 cw(c0,13.5) -0.635,13.5 -2.65,13.5 -2.65,-13.5
Mechanical 13:
  circle w0.1: c-2.4,12.55 r0.5
  lines w0.1: -3.3,-13.45 3.3,-13.45 3.3,13.45 -3.3,13.45 -3.3,-13.45
Mechanical 15:
  lines w0.05: -4.85,-13.75 4.85,-13.75 4.85,13.75 -4.85,13.75 -4.85,-13.75
  lines w0.1: -0.5,0 0.5,0 ; 0,-0.5 0,0.5
3D body: height 5.08, standoff 0.51, extent -3.3,-13.45 3.3,13.45
3D body: height 0, standoff -1.6, extent 3.675,11.07 3.945,11.79
3D body: height 2.93, standoff 2.66, extent 3.3,10.93 3.945,11.93
3D body: height 2.66, standoff 0, extent 3.675,10.93 3.945,11.93
3D body: height 0, standoff -1.6, extent 3.675,8.53 3.945,9.25
3D body: height 2.93, standoff 2.66, extent 3.3,8.39 3.945,9.39
3D body: height 2.66, standoff 0, extent 3.675,8.39 3.945,9.39
3D body: height 0, standoff -1.6, extent 3.675,5.99 3.945,6.71
3D body: height 2.93, standoff 2.66, extent 3.3,5.85 3.945,6.85
3D body: height 2.66, standoff 0, extent 3.675,5.85 3.945,6.85
3D body: height 0, standoff -1.6, extent 3.675,3.45 3.945,4.17
3D body: height 2.93, standoff 2.66, extent 3.3,3.31 3.945,4.31
3D body: height 2.66, standoff 0, extent 3.675,3.31 3.945,4.31
3D body: height 0, standoff -1.6, extent 3.675,0.91 3.945,1.63
3D body: height 2.93, standoff 2.66, extent 3.3,0.77 3.945,1.77
3D body: height 2.66, standoff 0, extent 3.675,0.77 3.945,1.77
3D body: height 0, standoff -1.6, extent 3.675,-1.63 3.945,-0.91
3D body: height 2.93, standoff 2.66, extent 3.3,-1.77 3.945,-0.77
3D body: height 2.66, standoff 0, extent 3.675,-1.77 3.945,-0.77
3D body: height 0, standoff -1.6, extent 3.675,-4.17 3.945,-3.45
3D body: height 2.93, standoff 2.66, extent 3.3,-4.31 3.945,-3.31
3D body: height 2.66, standoff 0, extent 3.675,-4.31 3.945,-3.31
3D body: height 0, standoff -1.6, extent 3.675,-6.71 3.945,-5.99
3D body: height 2.93, standoff 2.66, extent 3.3,-6.85 3.945,-5.85
3D body: height 2.66, standoff 0, extent 3.675,-6.85 3.945,-5.85
3D body: height 0, standoff -1.6, extent 3.675,-9.25 3.945,-8.53
3D body: height 2.93, standoff 2.66, extent 3.3,-9.39 3.945,-8.39
3D body: height 2.66, standoff 0, extent 3.675,-9.39 3.945,-8.39
3D body: height 0, standoff -1.6, extent 3.675,-11.79 3.945,-11.07
3D body: height 2.93, standoff 2.66, extent 3.3,-11.93 3.945,-10.93
3D body: height 2.66, standoff 0, extent 3.675,-11.93 3.945,-10.93
3D body: height 0, standoff -1.6, extent -3.945,-11.79 -3.675,-11.07
3D body: height 2.93, standoff 2.66, extent -3.945,-11.93 -3.3,-10.93
3D body: height 2.66, standoff 0, extent -3.945,-11.93 -3.675,-10.93
3D body: height 0, standoff -1.6, extent -3.945,-9.25 -3.675,-8.53
3D body: height 2.93, standoff 2.66, extent -3.945,-9.39 -3.3,-8.39
3D body: height 2.66, standoff 0, extent -3.945,-9.39 -3.675,-8.39
3D body: height 0, standoff -1.6, extent -3.945,-6.71 -3.675,-5.99
3D body: height 2.93, standoff 2.66, extent -3.945,-6.85 -3.3,-5.85
3D body: height 2.66, standoff 0, extent -3.945,-6.85 -3.675,-5.85
3D body: height 0, standoff -1.6, extent -3.945,-4.17 -3.675,-3.45
3D body: height 2.93, standoff 2.66, extent -3.945,-4.31 -3.3,-3.31
3D body: height 2.66, standoff 0, extent -3.945,-4.31 -3.675,-3.31
3D body: height 0, standoff -1.6, extent -3.945,-1.63 -3.675,-0.91
3D body: height 2.93, standoff 2.66, extent -3.945,-1.77 -3.3,-0.77
3D body: height 2.66, standoff 0, extent -3.945,-1.77 -3.675,-0.77
3D body: height 0, standoff -1.6, extent -3.945,0.91 -3.675,1.63
3D body: height 2.93, standoff 2.66, extent -3.945,0.77 -3.3,1.77
3D body: height 2.66, standoff 0, extent -3.945,0.77 -3.675,1.77
3D body: height 0, standoff -1.6, extent -3.945,3.45 -3.675,4.17
3D body: height 2.93, standoff 2.66, extent -3.945,3.31 -3.3,4.31
3D body: height 2.66, standoff 0, extent -3.945,3.31 -3.675,4.31
3D body: height 0, standoff -1.6, extent -3.945,5.99 -3.675,6.71
3D body: height 2.93, standoff 2.66, extent -3.945,5.85 -3.3,6.85
3D body: height 2.66, standoff 0, extent -3.945,5.85 -3.675,6.85
3D body: height 0, standoff -1.6, extent -3.945,8.53 -3.675,9.25
3D body: height 2.93, standoff 2.66, extent -3.945,8.39 -3.3,9.39
3D body: height 2.66, standoff 0, extent -3.945,8.39 -3.675,9.39
3D body: height 0, standoff -1.6, extent -3.945,11.07 -3.675,11.79
3D body: height 2.93, standoff 2.66, extent -3.945,10.93 -3.3,11.93
3D body: height 2.66, standoff 0, extent -3.945,10.93 -3.675,11.93

## NS0014A_L [mm] "SOIC,14-Leads,Body 10.5x5.6mm,Pitch 0.4mm,IPC High Density"
height 2
pads (14):
  oval 1.45x0.6 smd: 1(-3.525,3.81) 2(-3.525,2.54) 3(-3.525,1.27) 4(-3.525,0) 5(-3.525,-1.27) 6(-3.525,-2.54) 7(-3.525,-3.81) 8(3.525,-3.81) 9(3.525,-2.54) 10(3.525,-1.27) 11(3.525,0) 12(3.525,1.27) 13(3.525,2.54) 14(3.525,3.81)
Top Overlay:
  circle w0.25: c-3.525,4.66 r0.125
  circle w0.6: c-1.4,4.25 r0.3
  lines w0.2: -2.4,-5.25 -2.4,5.25 2.4,5.25 2.4,-5.25 -2.4,-5.25
Mechanical 13:
  circle w0.1: c-1.9,4.35 r0.5
  lines w0.1: -2.8,-5.25 -2.8,5.25 2.8,5.25 2.8,-5.25 -2.8,-5.25
Mechanical 15:
  lines w0.05: -4.35,-5.35 -4.35,5.35 4.35,5.35 4.35,-5.35 -4.35,-5.35
  lines w0.1: -0.5,0 0.5,0 ; 0,-0.5 0,0.5
3D body: height 2, standoff 0.05, extent -2.8,-5.25 2.8,5.25